# Altium footprint library Pin Header.PcbLib: 7 footprints
Each footprint in its own frame and in the unit in brackets; x right, y up, seen from the top. Pads: shape width x height; smd on the part's side, far side on the other; paste and mask are expansions set on the pad; w line width, h text height; cw(c..) or ccw(c..) is an arc to the next point about the centre after c.
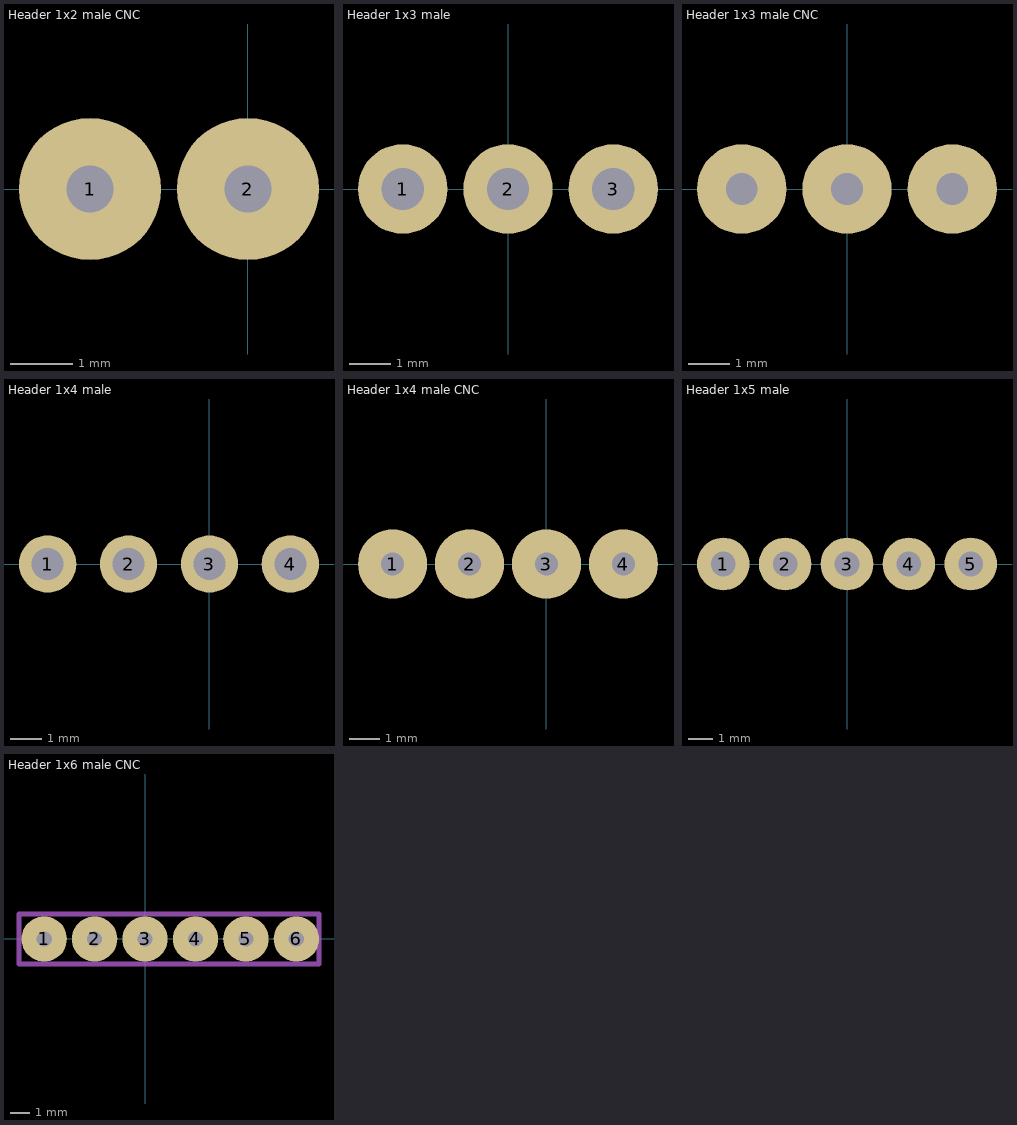
[diagram p0: the footprints below, top view; thin cyan lines are the x and y axes]

## Header 1x2 male CNC [mil]
pads (2):
  round 90 hole 30: 1(-100,0) 2(0,0)

## Header 1x3 male [mil]
pads (3):
  round 85 hole 40: 1(-100,0) 2(0,0) 3(100,0)
3D body "DS1021-1x4S61.stp": height 338.58, standoff -118.11, extent -149.99,-49.99 250.01,50.01

## Header 1x3 male CNC [mil]
pads (3):
  round 85 hole 30: ""(-100,0) ""(0,0) ""(100,0)
3D body "DS1021-1x4S61.stp": height 338.58, standoff -118.11, extent -149.99,-49.99 250.01,50.01

## Header 1x4 male [mm]
pads (4):
  round 1.8 hole 1: 1(-5.08,0) 2(-2.54,0) 3(0,0) 4(2.54,0)
3D body "DS1021-1x4S61.stp": height 8.6, standoff -3, extent -6.35,-1.27 3.81,1.27

## Header 1x4 male CNC [mil]
pads (4):
  round 90 hole 30: 1(-200,0) 2(-100,0) 3(0,0) 4(100,0)
3D body "DS1021-1x4S61.stp": height 338.58, standoff -118.11, extent -249.99,-49.99 150.01,50.01

## Header 1x5 male [mil]
pads (5):
  round 85 hole 40: 1(-200,0) 2(-100,0) 3(0,0) 4(100,0) 5(200,0)
3D body "DS1021-1x5S61.stp": height 338.58, standoff -118.11, extent -249.99,-49.99 250.01,50.01

## Header 1x6 male CNC [mil]
pads (6):
  round 90 hole 30: 1(-200,0) 2(-100,0) 3(0,0) 4(100,0) 5(200,0) 6(300,0)
Mechanical 1:
  lines w10: -250,-50 345,-50 345,50 -250,50 -250,-50
3D body "DS1021-1x5S61.stp": height 338.58, standoff -118.11, extent -249.99,-49.99 250.01,50.01